# Altium footprint library PcbLib.PcbLib: 145 footprints (part 9 of 10)
Each footprint in its own frame and in the unit in brackets; x right, y up, seen from the top. Pads: shape width x height; smd on the part's side, far side on the other; paste and mask are expansions set on the pad; w line width, h text height; cw(c..) or ccw(c..) is an arc to the next point about the centre after c.
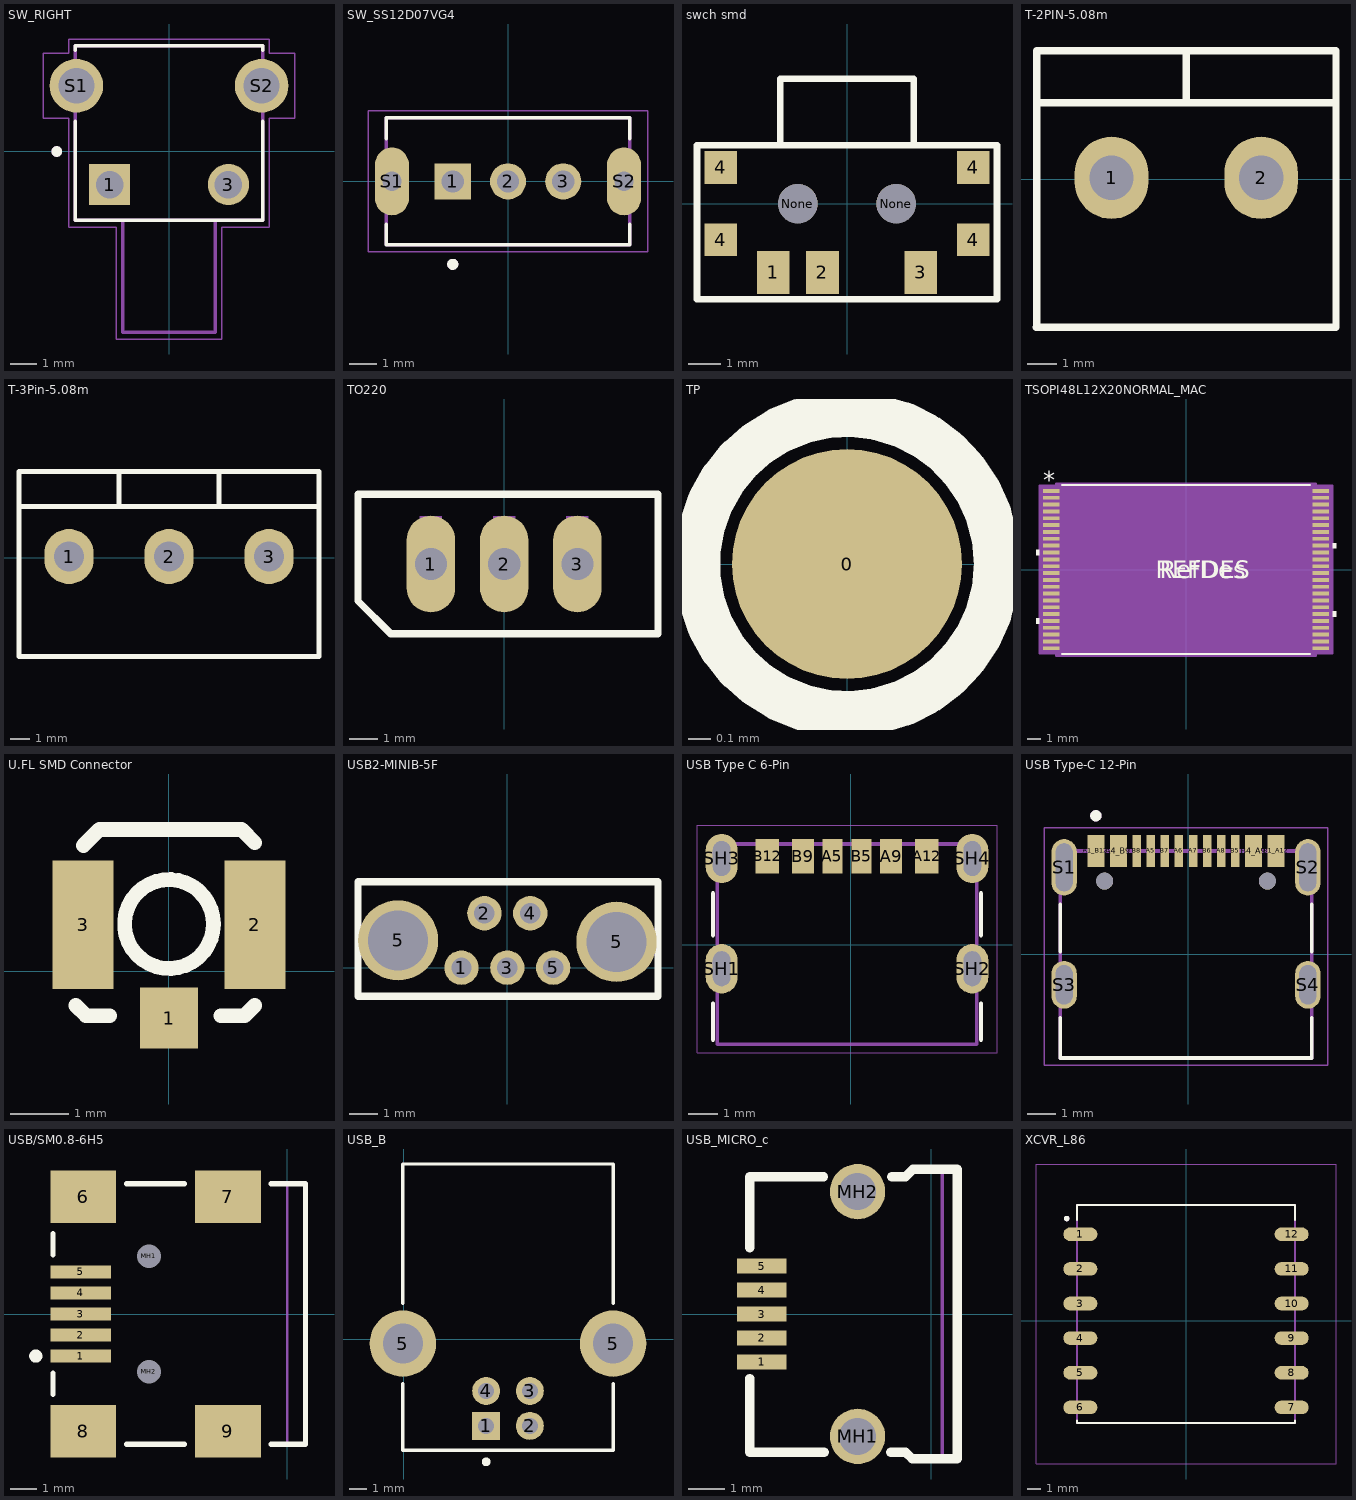
[diagram p8: the footprints below, top view; thin cyan lines are the x and y axes]

## SW_RIGHT [mm] "FSMRA6JH"
height 5.85
pads (4):
  rect 1.561x1.561 hole 1.041: 1(-2.25,-1.25)
  round 1.561 hole 1.041: 3(2.25,-1.25)
  round 2.026 hole 1.351: S1(-3.505,2.49) S2(3.505,2.49)
Top Overlay:
  circle w0.2: c-4.25,0 r0.1
  lines w0.127: -3.555,1.14 -3.555,-2.61 3.555,-2.61 3.555,1.14 ; -3.555,3.84 -3.555,4.01 3.555,4.01 3.555,3.84
Mechanical 13:
  circle w0.2: c-4.25,0 r0.1
  lines w0.127: -1.755,-2.61 1.755,-2.61 ; -1.755,-2.61 -3.555,-2.61 -3.555,4.01 3.555,4.01 3.555,-2.61 1.755,-2.61 ; -1.755,-2.61 -1.755,-6.85 1.755,-6.85 1.755,-2.61
Mechanical 15:
  lines w0.05: -4.77,1.264 -3.805,1.264 -3.805,-2.86 -2.005,-2.86 -2.005,-7.1 2.005,-7.1 2.005,-2.86 3.805,-2.86 3.805,1.264 4.77,1.264 4.77,3.717 3.805,3.717 3.805,4.26 -3.805,4.26 -3.805,3.717 -4.77,3.717 -4.77,1.264
3D body "tactile right.STEP": height 7, standoff -4, extent -3.4,-7.85 4,4.65

## SW_SS12D07VG4 [mm]
pads (5):
  rect 1.308x1.308 hole 0.8: 1(-2,0)
  round 1.308 hole 0.8: 2(0,0) 3(2,0)
  oval 1.23x2.46 hole 0.7 square: S1(-4.2,0) S2(4.2,0)
Top Overlay:
  circle w0.2: c-2,-3 r0.1
  lines w0.127: -4.4,-1.55 -4.4,-2.3 4.4,-2.3 4.4,-1.55 ; -4.4,1.55 -4.4,2.3 4.4,2.3 4.4,1.55
Mechanical 13:
  circle w0.2: c-2,-3 r0.1
  lines w0.127: -4.4,-2.3 -4.4,2.3 4.4,2.3 4.4,-2.3 -4.4,-2.3
Mechanical 15:
  lines w0.05: -5.065,-2.55 -5.065,2.55 5.065,2.55 5.065,-2.55 -5.065,-2.55

## swch smd [mm]
pads (9):
  rect 1x1.3 smd: 1(-2.25,-2.1) 2(-0.75,-2.1) 3(2.25,-2.1)
  rect 1x1 smd: 4(-3.85,-1.1) 4(-3.85,1.1) 4(3.85,-1.1) 4(3.85,1.1)
  round 1.2 hole 1.2 unplated: None(-1.5,0) None(1.5,0)
Top Overlay:
  lines w0.203: -4.572,-2.921 4.572,-2.921 4.572,-0.254 4.572,1.778 -4.572,1.778 -4.572,-2.921 ; -2.032,1.778 -2.032,3.81 0,3.81 2.032,3.81 2.032,1.778 -2.032,1.778

## T-2PIN-5.08m [mm]
pads (2):
  oval 2.5x2.8 hole 1.5: 1(-10.135,0.051) 2(-5.055,0.051)
Top Overlay:
  lines w0.254: -12.7,-5.029 -7.595,-5.029 ; -7.595,4.318 -7.595,2.591 -2.54,2.591 ; -2.642,2.591 -12.675,2.591 ; -2.515,-5.029 -12.675,-5.029 -12.675,2.591 ; -2.515,-4.978 -2.515,2.642 ; -12.675,2.591 -12.675,4.369 ; -12.675,2.591 -12.675,4.369 ; -12.675,4.369 -2.515,4.369 ; -2.515,4.369 -2.515,2.591 -2.515,4.369
3D body "1935776.stp": height 11.05, standoff -6.55, extent -12.573,-4.826 -2.573,4.174

## T-3Pin-5.08m [mm]
pads (3):
  oval 2.5x2.8 hole 1.5: 1(-15.215,0.051) 2(-10.135,0.051) 3(-5.055,0.051)
Top Overlay:
  lines w0.254: -12.675,-5.029 -2.515,-5.029 ; -7.722,2.591 -17.755,2.591 ; -7.595,-5.029 -17.755,-5.029 -17.755,2.591 ; -2.642,2.591 -12.675,2.591 ; -2.515,-4.978 -2.515,2.642 ; -17.755,2.591 -17.755,4.369 -7.595,4.369 ; -12.675,2.591 -12.675,4.369 ; -12.675,2.591 -12.675,4.369 ; -12.675,4.369 -2.515,4.369 ; -7.595,4.369 -7.595,2.591 -7.595,4.369 ; -2.515,4.369 -2.515,2.591 -2.515,4.369
3D body "796683-3--3DModel-STEP-1.STEP": height 15, standoff -3.7, extent -17.91,-5.063 -2.41,3.937

## TO220 [mil]
pads (3):
  oval 66x132 hole 44: 1(-100,-250) 2(0,-250) 3(100,-250)
Top Overlay:
  lines w10: -199.52,-300.48 -155,-345 210,-345 210,-155 -199.52,-155 -199.52,-300.48
Mechanical 13:
  region: -85,-260 -115,-260 -115,-185 -85,-185
  region: 15,-260 -15,-260 -15,-185 15,-185
  region: 115,-260 85,-260 85,-185 115,-185
3D body "IRF9530.STEP": height 750.39, standoff -411.42, extent -199.52,-340 205,-164.81

## TP [mil]
pads (1):
  round 40 smd: 0(0,0)
Top Overlay:
  circle w8: c0,0 r26.08

## TSOPI48L12X20NORMAL_MAC [mil]
pads (48):
  rect 47.5x11 smd paste+0 mask+0: 1(-387.75,226.38) 2(-387.75,206.69) 3(-387.75,187.01) 4(-387.75,167.32) 5(-387.75,147.64) 6(-387.75,127.95) 7(-387.75,108.27) 8(-387.75,88.58) 9(-387.75,68.9) 10(-387.75,49.21) 11(-387.75,29.53) 12(-387.75,9.84) 13(-387.75,-9.84) 14(-387.75,-29.53) 15(-387.75,-49.21) 16(-387.75,-68.9) 17(-387.75,-88.58) 18(-387.75,-108.27) 19(-387.75,-127.95) 20(-387.75,-147.64) 21(-387.75,-167.32) 22(-387.75,-187.01) 23(-387.75,-206.69) 24(-387.75,-226.38) 25(387.75,-226.38) 26(387.75,-206.69) 27(387.75,-187.01) 28(387.75,-167.32) 29(387.75,-147.64) 30(387.75,-127.95) 31(387.75,-108.27) 32(387.75,-88.58) 33(387.75,-68.9) 34(387.75,-49.21) 35(387.75,-29.53) 36(387.75,-9.84) 37(387.75,9.84) 38(387.75,29.53) 39(387.75,49.21) 40(387.75,68.9) 41(387.75,88.58) 42(387.75,108.27) 43(387.75,127.95) 44(387.75,147.64) 45(387.75,167.32) 46(387.75,187.01) 47(387.75,206.69) 48(387.75,226.38)
Top Overlay:
  region: 421.5,76.4 431.5,76.4 431.5,61.4 421.5,61.4
  region: 421.5,-120.45 431.5,-120.45 431.5,-135.45 421.5,-135.45
  region: -421.5,-140.14 -431.5,-140.14 -431.5,-155.14 -421.5,-155.14
  region: -421.5,56.71 -431.5,56.71 -431.5,41.71 -421.5,41.71
  lines w6: -357.08,-243 357.08,-243 ; -357.08,243 357.08,243
  text "REFDES" at -87.5,-25 h50
  text "RefDes" at -75,-25 h50
  text "*" at -410.25,232.38 h50
Mechanical 13:
  drawing of 197 lines, arcs and shapes, not listed
  text "RefDes2" at -87.5,-25 h50
  text "*" at -361.5,185 h50
Mechanical 15:
  region: -374,-241.88 -421.5,-241.88 -421.5,241.88 -374,241.88 -374,248 374,248 374,241.88 421.5,241.88 421.5,-241.88 374,-241.88 374,-248 -374,-248
  lines w6: -421.5,-241.88 -374,-241.88 -374,-248 374,-248 374,-241.88 421.5,-241.88 421.5,241.88 374,241.88 374,248 -374,248 -374,241.88 -421.5,241.88 -421.5,-241.88
3D body "TSOPI48L12X20NORMAL_MAC.step": height 47.09, standoff 0, extent -397.52,-237.99 397.52,237.99

## U.FL SMD Connector [mm]
pads (3):
  rect 1x1.05 smd: 1(0.002,-0.8)
  rect 1.05x2.2 smd: 2(1.475,0.8) 3(-1.475,0.8)
Top Overlay:
  circle w0.254: c0,0.813 r0.764
  lines w0.254: -1.6,-0.584 -1.422,-0.762 -1.016,-0.762 ; -1.47,2.163 -1.194,2.438 1.245,2.438 1.473,2.21 ; 0.889,-0.762 1.295,-0.762 1.473,-0.584
3D body "SW3dPS-UFL-R-SMD.STEP": height 1.25, standoff 0, extent -1.726,-0.763 1.674,2.337

## USB2-MINIB-5F [mm]
pads (7):
  round 1.2 hole 0.711: 1(-1.6,0) 2(-0.8,1.9) 3(0,0) 4(0.8,1.9) 5(1.6,0)
  round 2.8 hole 2.1: 5(-3.81,0.95) 5(3.81,0.9)
Top Overlay:
  lines w0.254: -0.25,3 5.258,3 5.258,-1 -5.207,-1 -5.207,3 -1,3 0,3

## USB Type C 6-Pin [mm]
pads (10):
  rect 0.7x1.2 smd mask+0.064: A5(-0.627,3.051) B5(0.373,3.051)
  rect 0.76x1.2 smd mask+0.064: A9(1.393,3.051) B9(-1.647,3.051)
  rect 0.8x1.2 smd mask+0.064: A12(2.623,3.051) B12(-2.877,3.051)
  oval 1.1x1.7 hole 0.6 slot 1.2 at 90 deg mask+0.064: SH1(-4.447,-0.829) SH2(4.193,-0.829) SH3(-4.447,2.971) SH4(4.193,2.971)
Top Overlay:
  lines w0.15: -4.747,-3.279 -4.747,-2.029 ; -4.747,0.321 -4.747,1.771 ; 4.493,-3.279 4.493,-2.029 ; 4.493,0.321 4.493,1.771
Mechanical 13:
  lines w0.13: -4.597,-3.429 4.343,-3.429 4.343,3.471 -4.597,3.471 -4.597,-3.429
Mechanical 15:
  lines w0.01: -5.297,-3.729 -5.297,4.121 5.043,4.121 5.043,-3.729 -5.297,-3.729

## USB Type-C 12-Pin [mm]
pads (18):
  rect 0.6x1.14 smd mask+0.05: A1_B12(-3.287,3.67) A4_B9(-2.487,3.67) B1_A12(3.113,3.67) B4_A9(2.313,3.67)
  rect 0.3x1.14 smd mask+0.05: A5(-1.337,3.67) A6(-0.337,3.67) A7(0.163,3.67) A8(1.163,3.67) B5(1.663,3.67) B6(0.663,3.67) B7(-0.837,3.67) B8(-1.837,3.67)
  oval 0.9x2 hole 0.6 slot 1.7 at 90 deg: S1(-4.412,3.09) S2(4.238,3.09)
  oval 0.9x1.7 hole 0.6 slot 1.4 at 90 deg: S3(-4.412,-1.08) S4(4.238,-1.08)
  round 0.6 hole 0.6 unplated: ""(-2.977,2.6) ""(2.803,2.6)
Top Overlay:
  circle w0.2: c-3.287,4.92 r0.1
  lines w0.127: -4.557,-2.25 -4.557,-3.68 4.383,-3.68 4.383,-2.25 ; -4.557,0.09 -4.557,1.77 ; 4.383,0.09 4.383,1.77
Mechanical 13:
  circle w0.2: c-3.287,4.92 r0.1
  lines w0.127: -4.557,-3.68 4.383,-3.68 4.383,3.67 -4.557,3.67 -4.557,-3.68
Mechanical 15:
  lines w0.05: -5.112,-3.93 -5.112,4.49 4.938,4.49 4.938,-3.93 -5.112,-3.93
3D body "step_temp.STEP": height 3.31, standoff -0.99, extent -4.557,-3.68 4.383,4.225

## USB/SM0.8-6H5 [mm] "Connector; USB2.0, Type B, SM; 5 Position; Right Angle"
height 3.9
pads (11):
  rect 2.3x0.5 smd: 1(-7.85,-1.6) 2(-7.85,-0.8) 3(-7.85,0) 4(-7.85,0.8) 5(-7.85,1.6)
  rect 2.5x2 smd: 6(-7.75,4.45) 7(-2.25,4.45) 8(-7.75,-4.45) 9(-2.25,-4.45)
  round 0.6 hole 0.9 unplated: MH1(-5.25,2.2) MH2(-5.25,-2.2)
Top Overlay:
  circle w0.25: c-9.55,-1.6 r0.125
  lines w0.2: -8.9,-3.05 -8.9,-2.25 ; -8.9,2.25 -8.9,3.05 ; -6.1,-4.95 -3.9,-4.95 ; -6.1,4.95 -3.9,4.95 ; -0.6,-4.95 0.7,-4.95 0.7,4.95 -0.6,4.95
Mechanical 1:
  lines w0.1: 0,-4.95 0,4.95
  text "PCB Edge" at 0.432,-4.036 h0.25

## USB_B [mm]
pads (6):
  rect 1.6x1.6 hole 0.92: 1(4.719,-4.962)
  round 1.6 hole 0.92: 2(7.219,-4.962) 3(7.219,-2.962) 4(4.719,-2.962)
  round 3.8 hole 2.3: 5(-0.051,-0.252) 5(11.989,-0.252)
Top Overlay:
  circle w0.25: c4.719,-7.022 r0.125
  lines w0.2: -0.051,-2.552 -0.051,-6.372 11.989,-6.372 11.989,-2.552 ; -0.051,2.048 -0.051,10.028 11.989,10.028 11.989,2.048

## USB_MICRO_c [mm] "Connector; USB1.1, Type B, SM; 4 Position; Right Angle"
height 11
pads (7):
  rect 1.35x0.4 smd: 1(-4.6,-1.3) 2(-4.6,-0.65) 3(-4.6,0) 4(-4.6,0.65) 5(-4.6,1.3)
  round 1.5 hole 1 unplated: MH1(-2,-3.32) MH2(-2,3.32)
Top Overlay:
  lines w0.254: -4.925,-1.75 -4.925,-3.75 -2.9,-3.75 ; -4.925,1.8 -4.925,3.725 -2.925,3.725 ; -1.1,-3.75 -0.7,-3.75 -0.52,-3.93 0.7,-3.93 0.7,3.93 -0.495,3.93 -0.7,3.725 -1.075,3.725
Mechanical 1:
  lines w0.1: 0.3,-3.925 0.3,3.8
  text "PCB Edge" at -0.3,-2.6 h0.25

## XCVR_L86 [mm]
pads (12):
  oval 2.5x1 smd paste-2: 1(-7.75,6.35) 2(-7.75,3.81) 3(-7.75,1.27) 4(-7.75,-1.27) 5(-7.75,-3.81) 6(-7.75,-6.35) 7(7.75,-6.35) 8(7.75,-3.81) 9(7.75,-1.27) 10(7.75,1.27) 11(7.75,3.81) 12(7.75,6.35)
Top Overlay:
  circle w0.2: c-8.75,7.5 r0.1
  lines w0.127: -8,-7.3 -8,-7.5 8,-7.5 8,-7.3 ; -8,7.4 -8,8.5 8,8.5 8,7.4
Top Paste:
  drawing of 12 lines, arcs and shapes, not listed
Mechanical 13:
  circle w0.2: c-8.75,7.5 r0.1
  lines w0.127: -8,-7.5 -8,8.5 8,8.5 8,-7.5 -8,-7.5
Mechanical 15:
  lines w0.05: -11,-10.5 -11,11.5 11,11.5 11,-10.5 -11,-10.5
3D body "L86-M33--3DModel-STEP-56544.STEP": height 7.15, standoff 0, extent -9.271,-8.692 9.129,9.708